# Altium footprint library Freescal09.PcbLib: 2 footprints
Each footprint in its own frame and in the unit in brackets; x right, y up, seen from the top. Pads: shape width x height; smd on the part's side, far side on the other; paste and mask are expansions set on the pad; w line width, h text height; cw(c..) or ccw(c..) is an arc to the next point about the centre after c.
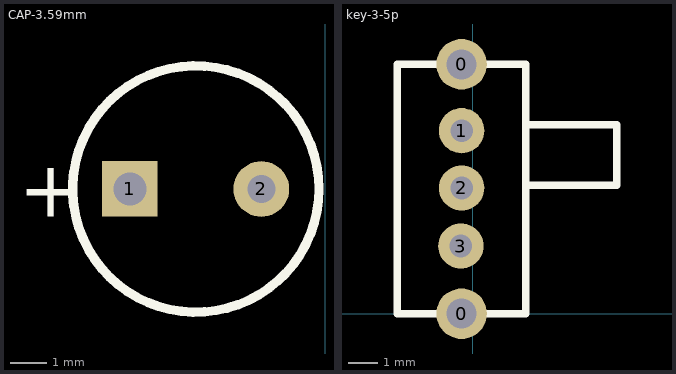
[diagram p0: the footprints below, top view; thin cyan lines are the x and y axes]

## CAP-3.59mm [mil]
pads (2):
  rect 60x60 hole 35.43: 1(-209.92,500.16)
  round 60 hole 30: 2(-68.5,500)
Top Overlay:
  circle w10: c-138.98,500 r132.48
  text "+" at -329.13,470.08 h60

## key-3-5p [mil]
pads (5):
  round 66.93 hole 39.76: 0(-15,0) 0(-15,330)
  round 60 hole 30: 1(-15,242.13) 2(-15,166.34) 3(-15.98,89.57)
Top Overlay:
  lines w10: 70,170 190,170 190,250 70,250 ; -100,0 -100,330 70,330 70,0 -100,0